# EAGLE library part DSPIC30F2020 (library dsPIC30F2020)
dsPIC30F2020 | Dip28 package 28 Pin High-Performance Digital Signal Controllers By Rangana Tennkoon
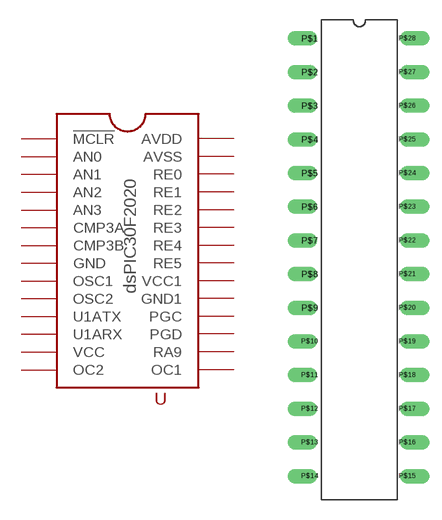
[diagram p0: symbol with the pads of DIP28; footprint DIP28]

Designator prefix -

## DSPIC30F2020DIP28  [DIP28]
P$1  !MCLR!
P$2  AN0
P$3  AN1
P$4  AN2
P$5  AN3
P$6  CMP3A
P$7  CMP3B
P$8  GND
P$9  OSC1
P$10  OSC2
P$11  U1ATX
P$12  U1ARX
P$13  VCC
P$14  OC2
P$15  OC1
P$16  RA9
P$17  PGD
P$18  PGC
P$19  GND1
P$20  VCC1
P$21  RE5
P$22  RE4
P$23  RE3
P$24  RE2
P$25  RE1
P$26  RE0
P$27  AVSS
P$28  AVDD

## Footprint DIP28 (pad centres in mm)
drill 0.6 offset: P$1 -3.81,16.51; P$2 -3.81,13.97; P$3 -3.81,11.43; P$4 -3.81,8.89; P$5 -3.81,6.35; P$6 -3.81,3.81; P$7 -3.81,1.27; P$8 -3.81,-1.27; P$9 -3.81,-3.81; P$10 -3.81,-6.35; P$11 -3.81,-8.89; P$12 -3.81,-11.43; P$13 -3.81,-13.97; P$14 -3.81,-16.51; P$15 3.556,-16.51; P$16 3.556,-13.97; P$17 3.556,-11.43; P$18 3.556,-8.89; P$19 3.556,-6.35; P$20 3.556,-3.81; P$21 3.556,-1.27; P$22 3.556,1.27; P$23 3.556,3.81; P$24 3.556,6.35; P$25 3.556,8.89; P$26 3.556,11.43; P$27 3.556,13.97; P$28 3.556,16.51